# Altium integrated library NSC Switcher.IntLib: 2027 symbols (part 38 of 54)
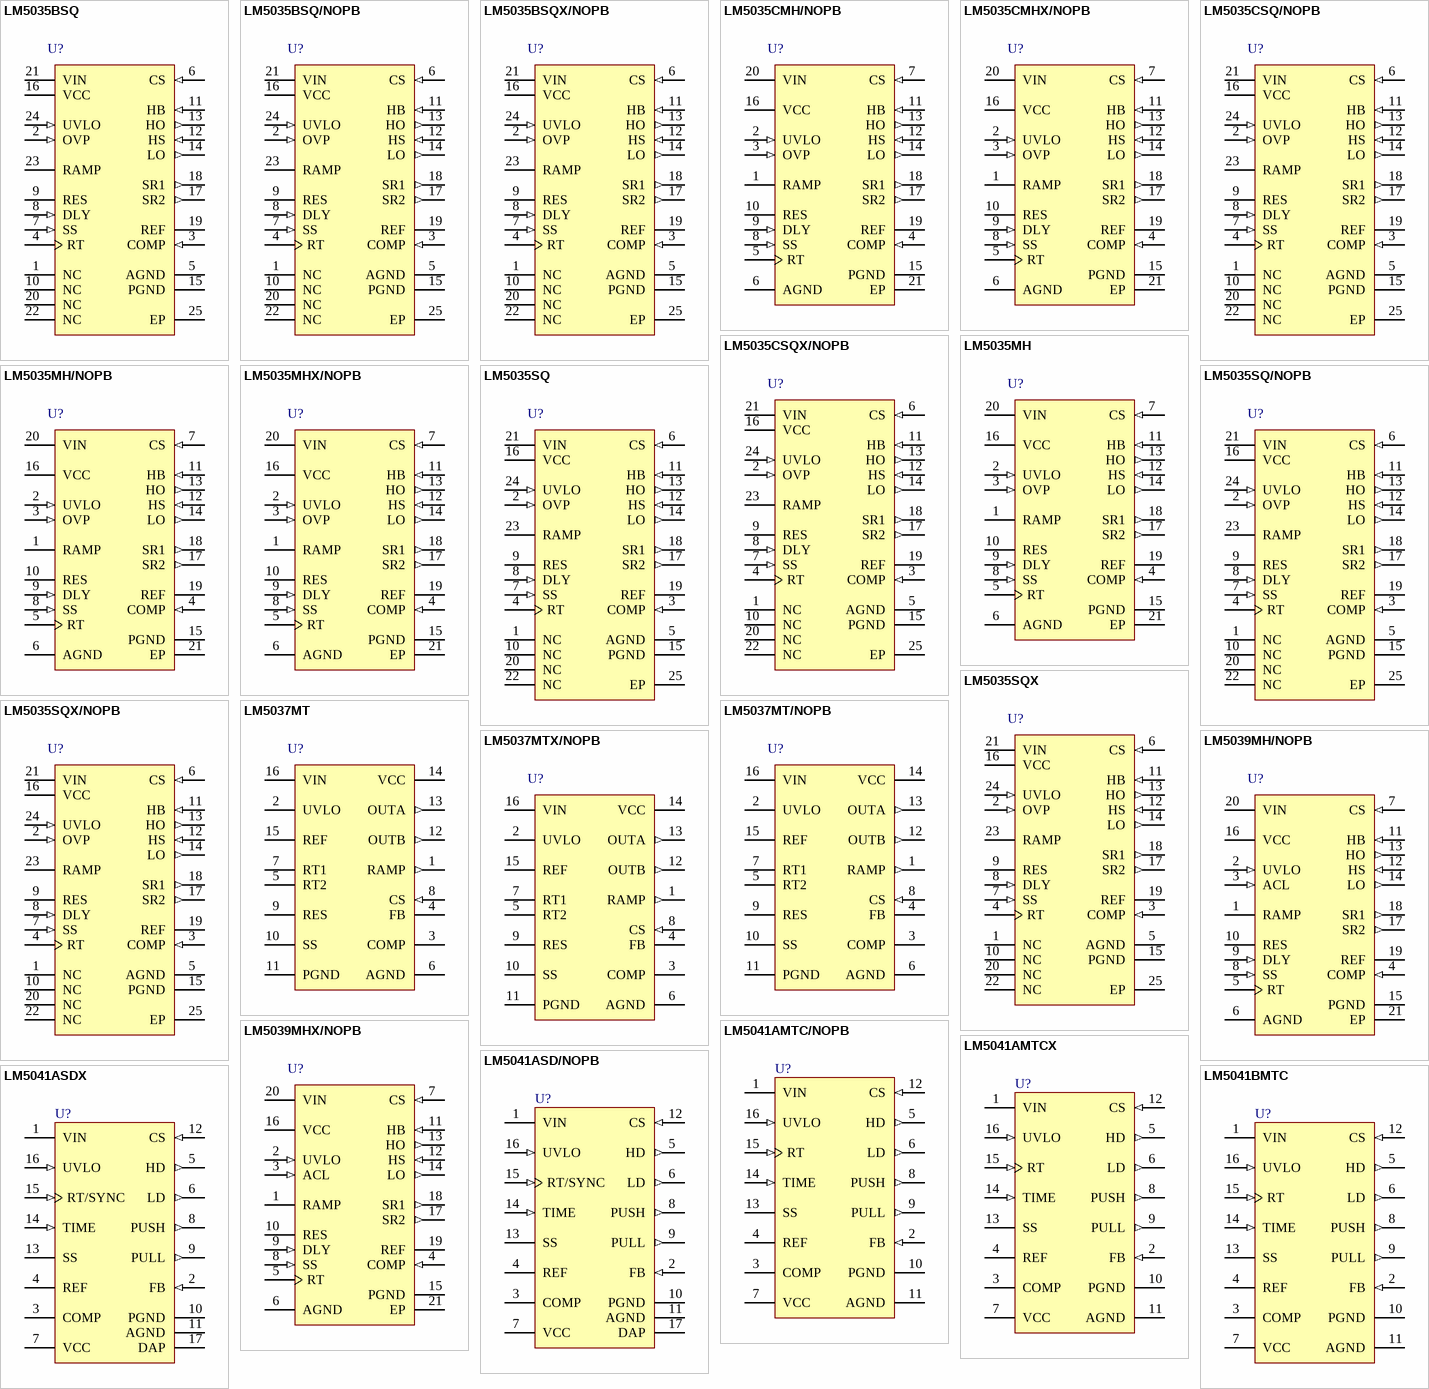
[diagram p100: symbols LM5035BSQ to LM5041BMTC]

## LM5035SQ
designator U?
PWM Controller with Integrated Half-Bridge and SyncFET Drivers, 24-pin LLP; PartNumber: LM5035SQ; Manufacturer: National Semiconductor; PackageTopMarking: NS*UZXYTT*L5035SQ; PowerWise: Y; CompType: Switcher; Published: 4-Dec-2008; DatasheetVersion: Dec-2008; PackageVersion: revA, Oct-2003; PackageReference: SQA24B; Publisher: Altium Limited; PackageDescription: LLP, Plastic, Quad, 5 x 4 x 0.8mm Body, 24 Lead, 0.5mm Pitch, No Pullback; RoHS: N; PinCount: 24; Code_JEDEC: MO-220-WGHD-1; ComponentLink1Description: LM5035 Datasheet; ComponentLink1URL: http://www.national.com/ds/LM/LM5035.pdf; ComponentLink2Description: LM5035 Web Page; ComponentLink2URL: http://www.national.com/pf/LM/LM5035.html; ComponentLink3Description: SQA24B Package Page; ComponentLink3URL: http://www.national.com/packaging/folders/sqa24b.html
footprint SQA24B (QFN, 24-Leads, Body 5x4mm, Pitch 0.5mm, NSC Recommended)
pins: 1 NC, 2 OVP (in), 3 COMP (in), 4 RT (power), 5 AGND (power), 6 CS (in), 7 SS (in), 8 DLY (in), 9 RES, 10 NC, 11 HB (in), 12 HS (in), 13 HO (out), 14 LO (out), 15 PGND (power), 16 VCC (power), 17 SR2 (out), 18 SR1 (out), 19 REF (power), 20 NC, 21 VIN (power), 22 NC, 23 RAMP, 24 UVLO (in), 25 EP (power)

## LM5035SQ/NOPB
designator U?
PWM Controller with Integrated Half-Bridge and SyncFET Drivers, 24-pin LLP, Pb-Free; PartNumber: LM5035SQ/NOPB; Manufacturer: National Semiconductor; PackageTopMarking: NS*UZXYTT*L5035SQ; PowerWise: Y; CompType: Switcher; Published: 1-Mar-2010; DatasheetVersion: Dec-2008; PackageVersion: revA, Oct-2003; PackageReference: SQA24B; Publisher: Altium Limited; PackageDescription: LLP, Plastic, Quad, 5 x 4 x 0.8mm Body, 24 Lead, 0.5mm Pitch, No Pullback; Supplier 1: Digi-Key; Supplier Part Number 1: LM5035SQTR-ND; Supplier 2: Digi-Key; Supplier Part Number 2: LM5035SQCT-ND; Supplier 3: Digi-Key; Supplier Part Number 3: LM5035SQDKR-ND; RoHS: Y; PinCount: 24; Code_JEDEC: MO-220-WGHD-1; ComponentLink1Description: LM5035 Datasheet; ComponentLink1URL: http://www.national.com/ds/LM/LM5035.pdf; ComponentLink2Description: LM5035 Web Page; ComponentLink2URL: http://www.national.com/pf/LM/LM5035.html; ComponentLink3Description: SQA24B Package Page; ComponentLink3URL: http://www.national.com/packaging/folders/sqa24b.html
footprint SQA24B (QFN, 24-Leads, Body 5x4mm, Pitch 0.5mm, NSC Recommended)
pins: 1 NC, 2 OVP (in), 3 COMP (in), 4 RT (power), 5 AGND (power), 6 CS (in), 7 SS (in), 8 DLY (in), 9 RES, 10 NC, 11 HB (in), 12 HS (in), 13 HO (out), 14 LO (out), 15 PGND (power), 16 VCC (power), 17 SR2 (out), 18 SR1 (out), 19 REF (power), 20 NC, 21 VIN (power), 22 NC, 23 RAMP, 24 UVLO (in), 25 EP (power)

## LM5035SQX
designator U?
PWM Controller with Integrated Half-Bridge and SyncFET Drivers, 24-pin LLP; PartNumber: LM5035SQX; Manufacturer: National Semiconductor; PackageTopMarking: NS*UZXYTT*L5035SQ; PowerWise: Y; CompType: Switcher; Published: 1-Mar-2010; DatasheetVersion: Dec-2008; PackageVersion: revA, Oct-2003; PackageReference: SQA24B; Publisher: Altium Limited; PackageDescription: LLP, Plastic, Quad, 5 x 4 x 0.8mm Body, 24 Lead, 0.5mm Pitch, No Pullback; RoHS: N; PinCount: 24; Code_JEDEC: MO-220-WGHD-1; ComponentLink1Description: LM5035 Datasheet; ComponentLink1URL: http://www.national.com/ds/LM/LM5035.pdf; ComponentLink2Description: LM5035 Web Page; ComponentLink2URL: http://www.national.com/pf/LM/LM5035.html; ComponentLink3Description: SQA24B Package Page; ComponentLink3URL: http://www.national.com/packaging/folders/sqa24b.html
footprint SQA24B (QFN, 24-Leads, Body 5x4mm, Pitch 0.5mm, NSC Recommended)
pins: 1 NC, 2 OVP (in), 3 COMP (in), 4 RT (power), 5 AGND (power), 6 CS (in), 7 SS (in), 8 DLY (in), 9 RES, 10 NC, 11 HB (in), 12 HS (in), 13 HO (out), 14 LO (out), 15 PGND (power), 16 VCC (power), 17 SR2 (out), 18 SR1 (out), 19 REF (power), 20 NC, 21 VIN (power), 22 NC, 23 RAMP, 24 UVLO (in), 25 EP (power)

## LM5035SQX/NOPB
designator U?
PWM Controller with Integrated Half-Bridge and SyncFET Drivers, 24-pin LLP, Pb-Free; PartNumber: LM5035SQX/NOPB; Manufacturer: National Semiconductor; PackageTopMarking: NS*UZXYTT*L5035SQ; PowerWise: Y; CompType: Switcher; Published: 1-Mar-2010; DatasheetVersion: Dec-2008; PackageVersion: revA, Oct-2003; PackageReference: SQA24B; Publisher: Altium Limited; PackageDescription: LLP, Plastic, Quad, 5 x 4 x 0.8mm Body, 24 Lead, 0.5mm Pitch, No Pullback; Supplier 1: Digi-Key; Supplier Part Number 1: LM5035SQX-ND; RoHS: Y; PinCount: 24; Code_JEDEC: MO-220-WGHD-1; ComponentLink1Description: LM5035 Datasheet; ComponentLink1URL: http://www.national.com/ds/LM/LM5035.pdf; ComponentLink2Description: LM5035 Web Page; ComponentLink2URL: http://www.national.com/pf/LM/LM5035.html; ComponentLink3Description: SQA24B Package Page; ComponentLink3URL: http://www.national.com/packaging/folders/sqa24b.html
footprint SQA24B (QFN, 24-Leads, Body 5x4mm, Pitch 0.5mm, NSC Recommended)
pins: 1 NC, 2 OVP (in), 3 COMP (in), 4 RT (power), 5 AGND (power), 6 CS (in), 7 SS (in), 8 DLY (in), 9 RES, 10 NC, 11 HB (in), 12 HS (in), 13 HO (out), 14 LO (out), 15 PGND (power), 16 VCC (power), 17 SR2 (out), 18 SR1 (out), 19 REF (power), 20 NC, 21 VIN (power), 22 NC, 23 RAMP, 24 UVLO (in), 25 EP (power)

## LM5037MT
designator U?
Dual-Mode PWM Controller with Alternating Outputs, 16-pin TSSOP; PartNumber: LM5037MT; Manufacturer: National Semiconductor; PackageTopMarking: NSUZXYTT*LM5037*MT; PowerWise: Y; CompType: Switcher; Published: 29-May-2009; DatasheetVersion: Jan-2010; PackageVersion: revD, Jun-2003; PackageReference: MTC16; Publisher: Altium Limited; PackageDescription: Molded TSSOP, Jedec, 5 x 4.4 x 0.9mm Body, 16 Lead, 0.65mm Pitch; RoHS: Y; PinCount: 16; Code_JEDEC: MO-153-AB; ComponentLink1Description: LM5037 Datasheet; ComponentLink1URL: http://www.national.com/ds/LM/LM5037.pdf; ComponentLink2Description: LM5037 Web Page; ComponentLink2URL: http://www.national.com/pf/LM/LM5037.html; ComponentLink3Description: MTC16 Package Page; ComponentLink3URL: http://www.national.com/packaging/folders/mtc16.html
footprint MTC16_N (TSOP, 16-Leads, Body 5x4.4mm, Pitch 0.65mm, IPC Medium Density)
footprint MTC16_L (TSOP, 16-Leads, Body 5x4.4mm, Pitch 0.65mm, IPC High Density)
footprint MTC16_M (TSOP, 16-Leads, Body 5x4.4mm, Pitch 0.65mm, IPC Low Density)
pins: 1 RAMP (out), 2 UVLO, 3 COMP, 4 FB, 5 RT2, 6 AGND (power), 7 RT1, 8 CS (in), 9 RES, 10 SS, 11 PGND (power), 12 OUTB (out), 13 OUTA (out), 14 VCC (power), 15 REF, 16 VIN

## LM5037MT/NOPB
designator U?
Dual-Mode PWM Controller With Alternating Outputs, 16-pin TSSOP, Pb-Free; PartNumber: LM5037MT/NOPB; Manufacturer: National Semiconductor; PackageTopMarking: NSUZXYTT*LM5037*MT; PowerWise: Y; CompType: Switcher; Published: 1-Mar-2010; DatasheetVersion: Jan-2010; PackageVersion: revD, Jun-2003; PackageReference: MTC16; Publisher: Altium Limited; PackageDescription: Molded TSSOP, Jedec, 5 x 4.4 x 0.9mm Body, 16 Lead, 0.65mm Pitch; Supplier 1: Digi-Key; Supplier Part Number 1: LM5037MT-ND; RoHS: Y; PinCount: 16; Code_JEDEC: MO-153-AB; ComponentLink1Description: LM5037 Datasheet; ComponentLink1URL: http://www.national.com/ds/LM/LM5037.pdf; ComponentLink2Description: LM5037 Web Page; ComponentLink2URL: http://www.national.com/pf/LM/LM5037.html; ComponentLink3Description: MTC16 Package Page; ComponentLink3URL: http://www.national.com/packaging/folders/mtc16.html
footprint MTC16_N (TSOP, 16-Leads, Body 5x4.4mm, Pitch 0.65mm, IPC Medium Density)
footprint MTC16_L (TSOP, 16-Leads, Body 5x4.4mm, Pitch 0.65mm, IPC High Density)
footprint MTC16_M (TSOP, 16-Leads, Body 5x4.4mm, Pitch 0.65mm, IPC Low Density)
pins: 1 RAMP (out), 2 UVLO, 3 COMP, 4 FB, 5 RT2, 6 AGND (power), 7 RT1, 8 CS (in), 9 RES, 10 SS, 11 PGND (power), 12 OUTB (out), 13 OUTA (out), 14 VCC (power), 15 REF, 16 VIN

## LM5037MTX/NOPB
designator U?
Dual-Mode PWM Controller With Alternating Outputs, 16-pin TSSOP, Pb-Free; PartNumber: LM5037MTX/NOPB; Manufacturer: National Semiconductor; PackageTopMarking: NSUZXYTT*LM5037*MT; PowerWise: Y; CompType: Switcher; Published: 1-Mar-2010; DatasheetVersion: Jan-2010; PackageVersion: revD, Jun-2003; PackageReference: MTC16; Publisher: Altium Limited; PackageDescription: Molded TSSOP, Jedec, 5 x 4.4 x 0.9mm Body, 16 Lead, 0.65mm Pitch; Supplier 1: Digi-Key; Supplier Part Number 1: LM5037MTX-ND; RoHS: Y; PinCount: 16; Code_JEDEC: MO-153-AB; ComponentLink1Description: LM5037 Datasheet; ComponentLink1URL: http://www.national.com/ds/LM/LM5037.pdf; ComponentLink2Description: LM5037 Web Page; ComponentLink2URL: http://www.national.com/pf/LM/LM5037.html; ComponentLink3Description: MTC16 Package Page; ComponentLink3URL: http://www.national.com/packaging/folders/mtc16.html
footprint MTC16_N (TSOP, 16-Leads, Body 5x4.4mm, Pitch 0.65mm, IPC Medium Density)
footprint MTC16_L (TSOP, 16-Leads, Body 5x4.4mm, Pitch 0.65mm, IPC High Density)
footprint MTC16_M (TSOP, 16-Leads, Body 5x4.4mm, Pitch 0.65mm, IPC Low Density)
pins: 1 RAMP (out), 2 UVLO, 3 COMP, 4 FB, 5 RT2, 6 AGND (power), 7 RT1, 8 CS (in), 9 RES, 10 SS, 11 PGND (power), 12 OUTB (out), 13 OUTA (out), 14 VCC (power), 15 REF, 16 VIN

## LM5039MH/NOPB
designator U?
Half-Bridge PWM Controller with Advanced Current Limit, 20-pin TSSOP-EP, Pb-Free; PartNumber: LM5039MH/NOPB; Manufacturer: National Semiconductor; PackageTopMarking: NSUZXYTT*LM5039*MH; PowerWise: Y; CompType: Switcher; Published: 1-Mar-2010; DatasheetVersion: Feb-2010; PackageVersion: revC, Jul-2006; PackageReference: MXA20A; Publisher: Altium Limited; PackageDescription: Molded TSSOP, Jedec, 6.5 x 4.4 x 0.9mm Body, 20 Lead, 0.65mm Pitch, Exposed Pad; Supplier 1: Digi-Key; Supplier Part Number 1: LM5039MH-ND; RoHS: Y; PinCount: 20; Code_JEDEC: MO-153-ACT; ComponentLink1Description: LM5039 Datasheet; ComponentLink1URL: http://www.national.com/ds/LM/LM5039.pdf; ComponentLink2Description: LM5039 Web Page; ComponentLink2URL: http://www.national.com/pf/LM/LM5039.html; ComponentLink3Description: MXA20A Package Page; ComponentLink3URL: http://www.national.com/packaging/folders/mxa20a.html
footprint MXA20A_N (TSOP, 20-Leads, Body 6.5x4.4mm, Pitch 0.65mm, Exposed Pad, IPC Medium Density)
footprint MXA20A_L (TSOP, 20-Leads, Body 6.5x4.4mm, Pitch 0.65mm, Exposed Pad, IPC High Density)
footprint MXA20A_M (TSOP, 20-Leads, Body 6.5x4.4mm, Pitch 0.65mm, Exposed Pad, IPC Low Density)
pins: 1 RAMP, 2 UVLO (in), 3 ACL (in), 4 COMP (in), 5 RT (power), 6 AGND (power), 7 CS (in), 8 SS (in), 9 DLY (in), 10 RES, 11 HB (in), 12 HS (in), 13 HO (out), 14 LO (out), 15 PGND (power), 16 VCC (power), 17 SR2 (out), 18 SR1 (out), 19 REF (power), 20 VIN (power), 21 EP (power)

## LM5039MHX/NOPB
designator U?
Half-Bridge PWM Controller with Advanced Current Limit, 20-pin TSSOP-EP, Pb-Free; PartNumber: LM5039MHX/NOPB; Manufacturer: National Semiconductor; PackageTopMarking: NSUZXYTT*LM5039*MH; PowerWise: Y; CompType: Switcher; Published: 1-Mar-2010; DatasheetVersion: Feb-2010; PackageVersion: revC, Jul-2006; PackageReference: MXA20A; Publisher: Altium Limited; PackageDescription: Molded TSSOP, Jedec, 6.5 x 4.4 x 0.9mm Body, 20 Lead, 0.65mm Pitch, Exposed Pad; Supplier 1: Digi-Key; Supplier Part Number 1: LM5039MHX/NOPB-ND; RoHS: Y; PinCount: 20; Code_JEDEC: MO-153-ACT; ComponentLink1Description: LM5039 Datasheet; ComponentLink1URL: http://www.national.com/ds/LM/LM5039.pdf; ComponentLink2Description: LM5039 Web Page; ComponentLink2URL: http://www.national.com/pf/LM/LM5039.html; ComponentLink3Description: MXA20A Package Page; ComponentLink3URL: http://www.national.com/packaging/folders/mxa20a.html
footprint MXA20A_N (TSOP, 20-Leads, Body 6.5x4.4mm, Pitch 0.65mm, Exposed Pad, IPC Medium Density)
footprint MXA20A_L (TSOP, 20-Leads, Body 6.5x4.4mm, Pitch 0.65mm, Exposed Pad, IPC High Density)
footprint MXA20A_M (TSOP, 20-Leads, Body 6.5x4.4mm, Pitch 0.65mm, Exposed Pad, IPC Low Density)
pins: 1 RAMP, 2 UVLO (in), 3 ACL (in), 4 COMP (in), 5 RT (power), 6 AGND (power), 7 CS (in), 8 SS (in), 9 DLY (in), 10 RES, 11 HB (in), 12 HS (in), 13 HO (out), 14 LO (out), 15 PGND (power), 16 VCC (power), 17 SR2 (out), 18 SR1 (out), 19 REF (power), 20 VIN (power), 21 EP (power)

## LM5041AMTC/NOPB
designator U?
Cascaded PWM Controller, 16-pin TSSOP, Pb-Free; PartNumber: LM5041AMTC/NOPB; Manufacturer: National Semiconductor; PackageTopMarking: NSUZXYTT*LM5041A*MTC; PowerWise: Y; CompType: Switcher; Published: 1-Mar-2010; DatasheetVersion: May-2009; PackageVersion: revD, Jun-2003; PackageReference: MTC16; Publisher: Altium Limited; PackageDescription: Molded TSSOP, Jedec, 5 x 4.4 x 0.9mm Body, 16 Lead, 0.65mm Pitch; Supplier 1: Digi-Key; Supplier Part Number 1: LM5041AMTC-ND; RoHS: Y; PinCount: 16; Code_JEDEC: MO-153-AB; ComponentLink1Description: LM5041A Datasheet; ComponentLink1URL: http://www.national.com/ds/LM/LM5041A.pdf; ComponentLink2Description: LM5041A Web Page; ComponentLink2URL: http://www.national.com/pf/LM/LM5041A.html; ComponentLink3Description: MTC16 Package Page; ComponentLink3URL: http://www.national.com/packaging/folders/mtc16.html
footprint MTC16_N (TSOP, 16-Leads, Body 5x4.4mm, Pitch 0.65mm, IPC Medium Density)
footprint MTC16_L (TSOP, 16-Leads, Body 5x4.4mm, Pitch 0.65mm, IPC High Density)
footprint MTC16_M (TSOP, 16-Leads, Body 5x4.4mm, Pitch 0.65mm, IPC Low Density)
pins: 1 VIN (power), 2 FB (in), 3 COMP, 4 REF (power), 5 HD (out), 6 LD (out), 7 VCC (power), 8 PUSH (out), 9 PULL (out), 10 PGND (power), 11 AGND (power), 12 CS (in), 13 SS, 14 TIME (in), 15 RT (in), 16 UVLO (in)

## LM5041AMTCX
designator U?
Cascaded PWM Controller, 16-pin TSSOP; PartNumber: LM5041AMTCX; Manufacturer: National Semiconductor; PackageTopMarking: NSUZXYTT*LM5041A*MTC; PowerWise: Y; CompType: Switcher; Published: 1-Mar-2010; DatasheetVersion: May-2009; PackageVersion: revD, Jun-2003; PackageReference: MTC16; Publisher: Altium Limited; PackageDescription: Molded TSSOP, Jedec, 5 x 4.4 x 0.9mm Body, 16 Lead, 0.65mm Pitch; RoHS: N; PinCount: 16; Code_JEDEC: MO-153-AB; ComponentLink1Description: LM5041A Datasheet; ComponentLink1URL: http://www.national.com/ds/LM/LM5041A.pdf; ComponentLink2Description: LM5041A Web Page; ComponentLink2URL: http://www.national.com/pf/LM/LM5041A.html; ComponentLink3Description: MTC16 Package Page; ComponentLink3URL: http://www.national.com/packaging/folders/mtc16.html
footprint MTC16_N (TSOP, 16-Leads, Body 5x4.4mm, Pitch 0.65mm, IPC Medium Density)
footprint MTC16_L (TSOP, 16-Leads, Body 5x4.4mm, Pitch 0.65mm, IPC High Density)
footprint MTC16_M (TSOP, 16-Leads, Body 5x4.4mm, Pitch 0.65mm, IPC Low Density)
pins: 1 VIN (power), 2 FB (in), 3 COMP, 4 REF (power), 5 HD (out), 6 LD (out), 7 VCC (power), 8 PUSH (out), 9 PULL (out), 10 PGND (power), 11 AGND (power), 12 CS (in), 13 SS, 14 TIME (in), 15 RT (in), 16 UVLO (in)

## LM5041ASD/NOPB
designator U?
Cascaded PWM Controller, 16-pin LLP, Pb-Free; PartNumber: LM5041ASD/NOPB; Manufacturer: National Semiconductor; PackageTopMarking: NS*UZXYTT*5041ASD; PowerWise: Y; CompType: Switcher; Published: 1-Mar-2010; DatasheetVersion: May-2005; PackageVersion: revA, May-2003; PackageReference: SDA16A; Publisher: Altium Limited; PackageDescription: LLP, Plastic, Dual, 5 x 5 x 0.8mm Body,16 Lead, 0.5mm Pitch, No Pullback; Supplier 1: Digi-Key; Supplier Part Number 1: LM5041ASDTR-ND; Supplier 2: Digi-Key; Supplier Part Number 2: LM5041ASDCT-ND; Supplier 3: Digi-Key; Supplier Part Number 3: LM5041ASDDKR-ND; RoHS: Y; PinCount: 16; ComponentLink1Description: LM5041A Datasheet; ComponentLink1URL: http://www.national.com/ds/LM/LM5041A.pdf; ComponentLink2Description: LM5041A Web Page; ComponentLink2URL: http://www.national.com/pf/LM/LM5041A.html; ComponentLink3Description: SDA16A Package Page; ComponentLink3URL: http://www.national.com/packaging/folders/sda16a.html
footprint SDA16A (SON, 16-Leads, Body 5x5mm, Pitch 0.5mm, NSC Recommended)
pins: 1 VIN (power), 2 FB (in), 3 COMP, 4 REF (power), 5 HD (out), 6 LD (out), 7 VCC (power), 8 PUSH (out), 9 PULL (out), 10 PGND (power), 11 AGND (power), 12 CS (in), 13 SS, 14 TIME (in), 15 RT/SYNC (in), 16 UVLO (in), 17 DAP (power)

## LM5041ASDX
designator U?
Cascaded PWM Controller, 16-pin LLP; PartNumber: LM5041ASDX; Manufacturer: National Semiconductor; PackageTopMarking: NS*UZXYTT*5041ASD; PowerWise: Y; CompType: Switcher; Published: 1-Mar-2010; DatasheetVersion: May-2005; PackageVersion: revA, May-2003; PackageReference: SDA16A; Publisher: Altium Limited; PackageDescription: LLP, Plastic, Dual, 5 x 5 x 0.8mm Body,16 Lead, 0.5mm Pitch, No Pullback; RoHS: N; PinCount: 16; ComponentLink1Description: LM5041A Datasheet; ComponentLink1URL: http://www.national.com/ds/LM/LM5041A.pdf; ComponentLink2Description: LM5041A Web Page; ComponentLink2URL: http://www.national.com/pf/LM/LM5041A.html; ComponentLink3Description: SDA16A Package Page; ComponentLink3URL: http://www.national.com/packaging/folders/sda16a.html
footprint SDA16A (SON, 16-Leads, Body 5x5mm, Pitch 0.5mm, NSC Recommended)
pins: 1 VIN (power), 2 FB (in), 3 COMP, 4 REF (power), 5 HD (out), 6 LD (out), 7 VCC (power), 8 PUSH (out), 9 PULL (out), 10 PGND (power), 11 AGND (power), 12 CS (in), 13 SS, 14 TIME (in), 15 RT/SYNC (in), 16 UVLO (in), 17 DAP (power)

## LM5041BMTC
designator U?
Cascaded PWM Controller, 16-pin TSSOP; PartNumber: LM5041BMTC; Manufacturer: National Semiconductor; PackageTopMarking: NSUZXYTT*LM5041B*MTC; PowerWise: N; CompType: Switcher; Published: 29-May-2009; DatasheetVersion: May-2009; PackageVersion: revD, Jun-2003; PackageReference: MTC16; Publisher: Altium Limited; PackageDescription: Molded TSSOP, Jedec, 5 x 4.4 x 0.9mm Body, 16 Lead, 0.65mm Pitch; RoHS: Y; PinCount: 16; Code_JEDEC: MO-153-AB; ComponentLink1Description: LM5041B Datasheet; ComponentLink1URL: http://www.national.com/ds/LM/LM5041B.pdf; ComponentLink2Description: LM5041B Web Page; ComponentLink2URL: http://www.national.com/pf/LM/LM5041B.html; ComponentLink3Description: MTC16 Package Page; ComponentLink3URL: http://www.national.com/packaging/folders/mtc16.html
footprint MTC16_N (TSOP, 16-Leads, Body 5x4.4mm, Pitch 0.65mm, IPC Medium Density)
footprint MTC16_L (TSOP, 16-Leads, Body 5x4.4mm, Pitch 0.65mm, IPC High Density)
footprint MTC16_M (TSOP, 16-Leads, Body 5x4.4mm, Pitch 0.65mm, IPC Low Density)
pins: 1 VIN (power), 2 FB (in), 3 COMP, 4 REF (power), 5 HD (out), 6 LD (out), 7 VCC (power), 8 PUSH (out), 9 PULL (out), 10 PGND (power), 11 AGND (power), 12 CS (in), 13 SS, 14 TIME (in), 15 RT (in), 16 UVLO (in)

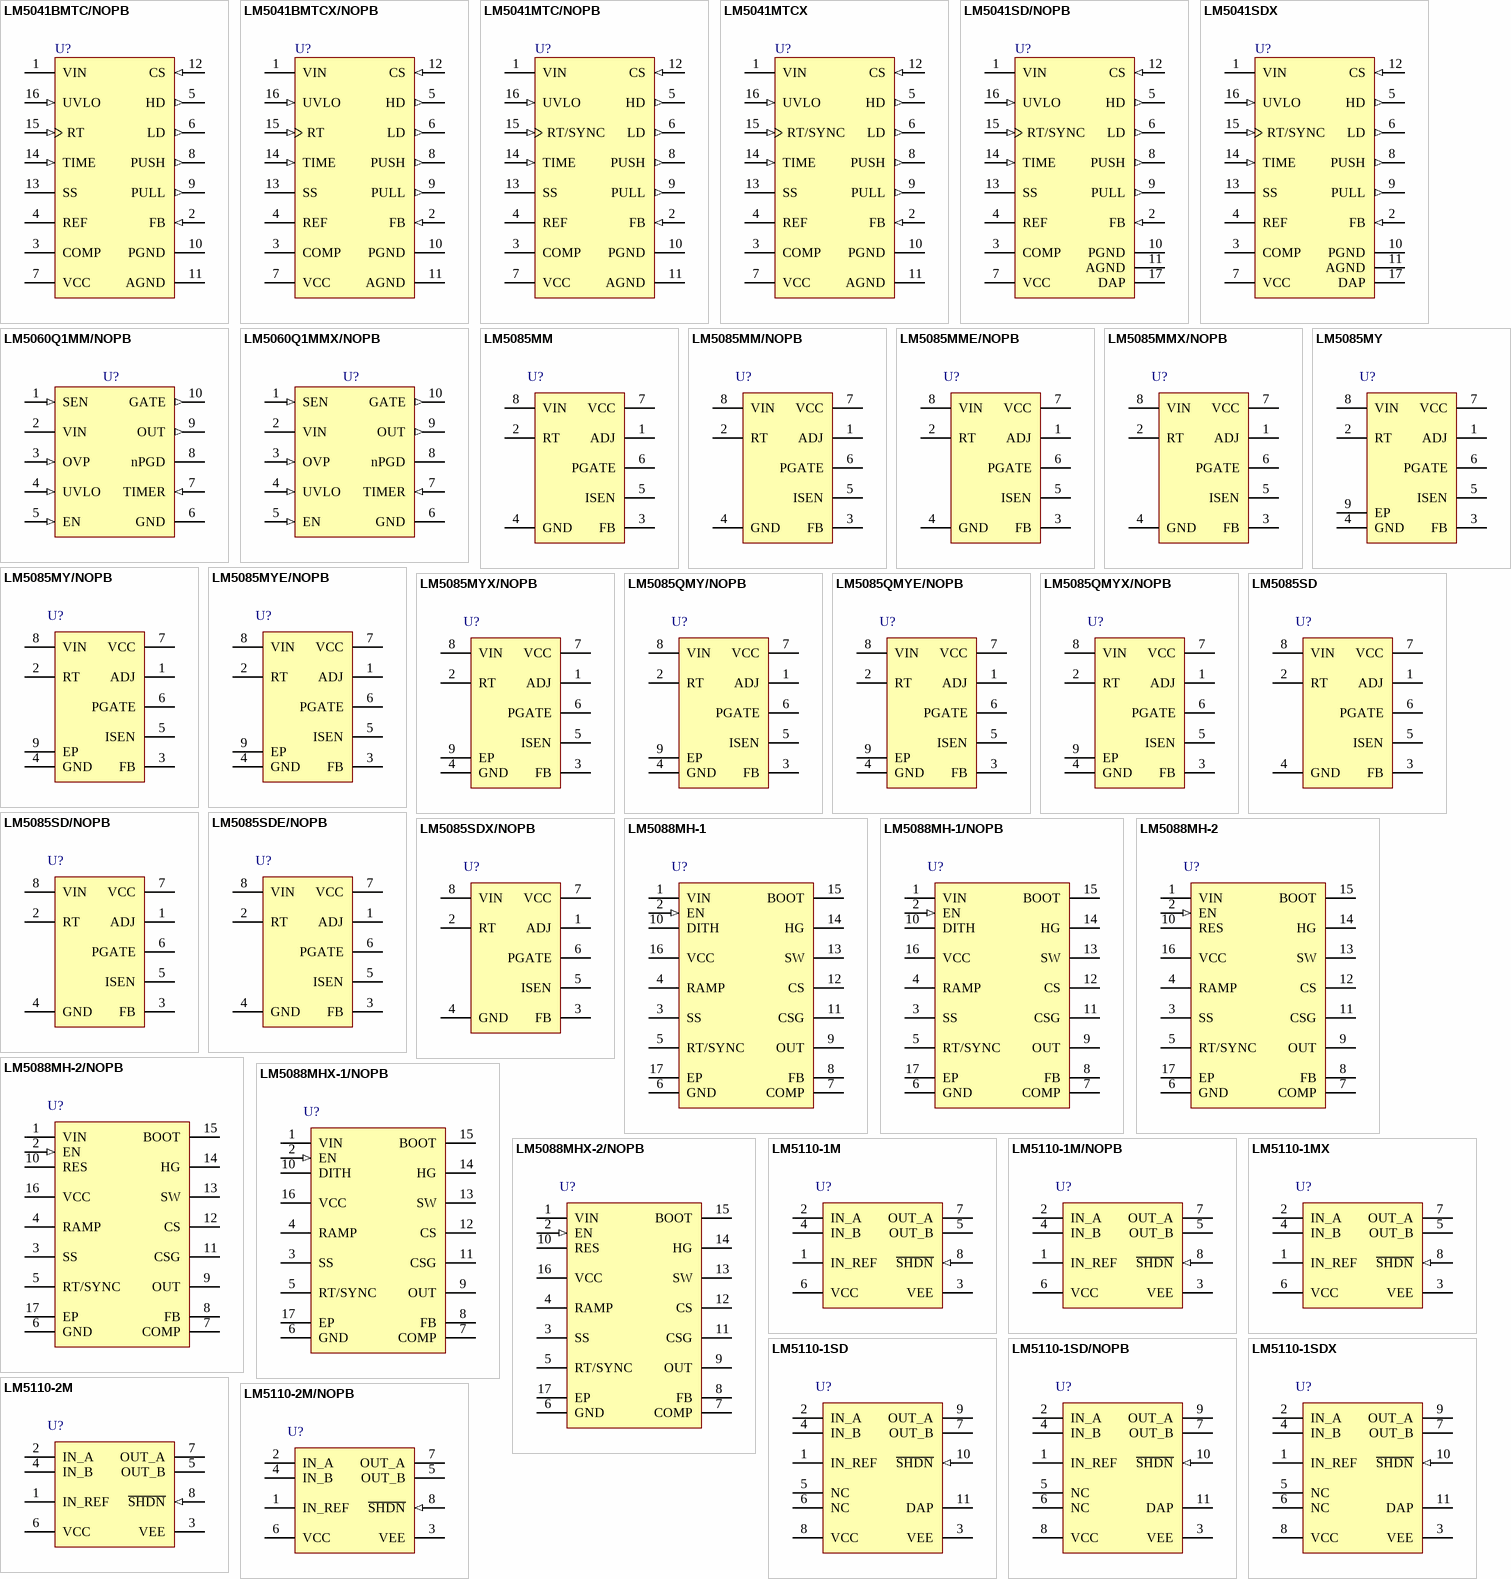
[diagram p42: symbols LM5041BMTC/NOPB to LM5110-2M/NOPB]

## LM5041BMTC/NOPB
designator U?
Cascaded PWM Controller, 16-pin TSSOP, Pb-Free; PartNumber: LM5041BMTC/NOPB; Manufacturer: National Semiconductor; PackageTopMarking: NSUZXYTT*LM5041B*MTC; PowerWise: Y; CompType: Switcher; Published: 1-Mar-2010; DatasheetVersion: May-2009; PackageVersion: revD, Jun-2003; PackageReference: MTC16; Publisher: Altium Limited; PackageDescription: Molded TSSOP, Jedec, 5 x 4.4 x 0.9mm Body, 16 Lead, 0.65mm Pitch; Supplier 1: Digi-Key; Supplier Part Number 1: LM5041BMTC-ND; RoHS: Y; PinCount: 16; Code_JEDEC: MO-153-AB; ComponentLink1Description: LM5041B Datasheet; ComponentLink1URL: http://www.national.com/ds/LM/LM5041B.pdf; ComponentLink2Description: LM5041B Web Page; ComponentLink2URL: http://www.national.com/pf/LM/LM5041B.html; ComponentLink3Description: MTC16 Package Page; ComponentLink3URL: http://www.national.com/packaging/folders/mtc16.html
footprint MTC16_N (TSOP, 16-Leads, Body 5x4.4mm, Pitch 0.65mm, IPC Medium Density)
footprint MTC16_L (TSOP, 16-Leads, Body 5x4.4mm, Pitch 0.65mm, IPC High Density)
footprint MTC16_M (TSOP, 16-Leads, Body 5x4.4mm, Pitch 0.65mm, IPC Low Density)
pins: 1 VIN (power), 2 FB (in), 3 COMP, 4 REF (power), 5 HD (out), 6 LD (out), 7 VCC (power), 8 PUSH (out), 9 PULL (out), 10 PGND (power), 11 AGND (power), 12 CS (in), 13 SS, 14 TIME (in), 15 RT (in), 16 UVLO (in)

## LM5041BMTCX/NOPB
designator U?
Cascaded PWM Controller, 16-pin TSSOP, Pb-Free; PartNumber: LM5041BMTCX/NOPB; Manufacturer: National Semiconductor; PackageTopMarking: NSUZXYTT*LM5041B*MTC; PowerWise: Y; CompType: Switcher; Published: 1-Mar-2010; DatasheetVersion: May-2009; PackageVersion: revD, Jun-2003; PackageReference: MTC16; Publisher: Altium Limited; PackageDescription: Molded TSSOP, Jedec, 5 x 4.4 x 0.9mm Body, 16 Lead, 0.65mm Pitch; Supplier 1: Digi-Key; Supplier Part Number 1: LM5041BMTCX-ND; RoHS: Y; PinCount: 16; Code_JEDEC: MO-153-AB; ComponentLink1Description: LM5041B Datasheet; ComponentLink1URL: http://www.national.com/ds/LM/LM5041B.pdf; ComponentLink2Description: LM5041B Web Page; ComponentLink2URL: http://www.national.com/pf/LM/LM5041B.html; ComponentLink3Description: MTC16 Package Page; ComponentLink3URL: http://www.national.com/packaging/folders/mtc16.html
footprint MTC16_N (TSOP, 16-Leads, Body 5x4.4mm, Pitch 0.65mm, IPC Medium Density)
footprint MTC16_L (TSOP, 16-Leads, Body 5x4.4mm, Pitch 0.65mm, IPC High Density)
footprint MTC16_M (TSOP, 16-Leads, Body 5x4.4mm, Pitch 0.65mm, IPC Low Density)
pins: 1 VIN (power), 2 FB (in), 3 COMP, 4 REF (power), 5 HD (out), 6 LD (out), 7 VCC (power), 8 PUSH (out), 9 PULL (out), 10 PGND (power), 11 AGND (power), 12 CS (in), 13 SS, 14 TIME (in), 15 RT (in), 16 UVLO (in)

## LM5041MTC/NOPB
designator U?
Cascaded PWM Controller, 16-pin TSSOP, Pb-Free; PartNumber: LM5041MTC/NOPB; Manufacturer: National Semiconductor; PackageTopMarking: NSZXYTT*LM5041*MTC; PowerWise: Y; CompType: Switcher; Published: 1-Mar-2010; DatasheetVersion: Apr-2004; PackageVersion: revD, Jun-2003; PackageReference: MTC16; Publisher: Altium Limited; PackageDescription: Molded TSSOP, Jedec, 5 x 4.4 x 0.9mm Body, 16 Lead, 0.65mm Pitch; Supplier 1: Digi-Key; Supplier Part Number 1: LM5041MTC-ND; RoHS: Y; PinCount: 16; Code_JEDEC: MO-153-AB; ComponentLink1Description: LM5041 Datasheet; ComponentLink1URL: http://www.national.com/ds/LM/LM5041.pdf; ComponentLink2Description: LM5041 Web Page; ComponentLink2URL: http://www.national.com/pf/LM/LM5041.html; ComponentLink3Description: MTC16 Package Page; ComponentLink3URL: http://www.national.com/packaging/folders/mtc16.html
footprint MTC16_N (TSOP, 16-Leads, Body 5x4.4mm, Pitch 0.65mm, IPC Medium Density)
footprint MTC16_L (TSOP, 16-Leads, Body 5x4.4mm, Pitch 0.65mm, IPC High Density)
footprint MTC16_M (TSOP, 16-Leads, Body 5x4.4mm, Pitch 0.65mm, IPC Low Density)
pins: 1 VIN (power), 2 FB (in), 3 COMP, 4 REF (power), 5 HD (out), 6 LD (out), 7 VCC (power), 8 PUSH (out), 9 PULL (out), 10 PGND (power), 11 AGND (power), 12 CS (in), 13 SS, 14 TIME (in), 15 RT/SYNC (in), 16 UVLO (in)

## LM5041MTCX
designator U?
Cascaded PWM Controller, 16-pin TSSOP; PartNumber: LM5041MTCX; Manufacturer: National Semiconductor; PackageTopMarking: NSZXYTT*LM5041*MTC; PowerWise: Y; CompType: Switcher; Published: 1-Mar-2010; DatasheetVersion: Apr-2004; PackageVersion: revD, Jun-2003; PackageReference: MTC16; Publisher: Altium Limited; PackageDescription: Molded TSSOP, Jedec, 5 x 4.4 x 0.9mm Body, 16 Lead, 0.65mm Pitch; RoHS: N; PinCount: 16; Code_JEDEC: MO-153-AB; ComponentLink1Description: LM5041 Datasheet; ComponentLink1URL: http://www.national.com/ds/LM/LM5041.pdf; ComponentLink2Description: LM5041 Web Page; ComponentLink2URL: http://www.national.com/pf/LM/LM5041.html; ComponentLink3Description: MTC16 Package Page; ComponentLink3URL: http://www.national.com/packaging/folders/mtc16.html
footprint MTC16_N (TSOP, 16-Leads, Body 5x4.4mm, Pitch 0.65mm, IPC Medium Density)
footprint MTC16_L (TSOP, 16-Leads, Body 5x4.4mm, Pitch 0.65mm, IPC High Density)
footprint MTC16_M (TSOP, 16-Leads, Body 5x4.4mm, Pitch 0.65mm, IPC Low Density)
pins: 1 VIN (power), 2 FB (in), 3 COMP, 4 REF (power), 5 HD (out), 6 LD (out), 7 VCC (power), 8 PUSH (out), 9 PULL (out), 10 PGND (power), 11 AGND (power), 12 CS (in), 13 SS, 14 TIME (in), 15 RT/SYNC (in), 16 UVLO (in)

## LM5041SD/NOPB
designator U?
Cascaded PWM Controller, 16-pin LLP, Pb-Free; PartNumber: LM5041SD/NOPB; Manufacturer: National Semiconductor; PackageTopMarking: NS*UZXYTT*5041SD; PowerWise: Y; CompType: Switcher; Published: 1-Mar-2010; DatasheetVersion: Apr-2004; PackageVersion: revA, May-2003; PackageReference: SDA16A; Publisher: Altium Limited; PackageDescription: LLP, Plastic, Dual, 5 x 5 x 0.8mm Body,16 Lead, 0.5mm Pitch, No Pullback; Supplier 1: Digi-Key; Supplier Part Number 1: LM5041SDTR-ND; Supplier 2: Digi-Key; Supplier Part Number 2: LM5041SDCT-ND; Supplier 3: Digi-Key; Supplier Part Number 3: LM5041SDDKR-ND; RoHS: Y; PinCount: 16; ComponentLink1Description: LM5041 Datasheet; ComponentLink1URL: http://www.national.com/ds/LM/LM5041.pdf; ComponentLink2Description: LM5041 Web Page; ComponentLink2URL: http://www.national.com/pf/LM/LM5041.html; ComponentLink3Description: SDA16A Package Page; ComponentLink3URL: http://www.national.com/packaging/folders/sda16a.html
footprint SDA16A (SON, 16-Leads, Body 5x5mm, Pitch 0.5mm, NSC Recommended)
pins: 1 VIN (power), 2 FB (in), 3 COMP, 4 REF (power), 5 HD (out), 6 LD (out), 7 VCC (power), 8 PUSH (out), 9 PULL (out), 10 PGND (power), 11 AGND (power), 12 CS (in), 13 SS, 14 TIME (in), 15 RT/SYNC (in), 16 UVLO (in), 17 DAP (power)

## LM5041SDX
designator U?
Cascaded PWM Controller, 16-pin LLP; PartNumber: LM5041SDX; Manufacturer: National Semiconductor; PackageTopMarking: NS*UZXYTT*5041SD; PowerWise: Y; CompType: Switcher; Published: 1-Mar-2010; DatasheetVersion: Apr-2004; PackageVersion: revA, May-2003; PackageReference: SDA16A; Publisher: Altium Limited; PackageDescription: LLP, Plastic, Dual, 5 x 5 x 0.8mm Body,16 Lead, 0.5mm Pitch, No Pullback; RoHS: N; PinCount: 16; ComponentLink1Description: LM5041 Datasheet; ComponentLink1URL: http://www.national.com/ds/LM/LM5041.pdf; ComponentLink2Description: LM5041 Web Page; ComponentLink2URL: http://www.national.com/pf/LM/LM5041.html; ComponentLink3Description: SDA16A Package Page; ComponentLink3URL: http://www.national.com/packaging/folders/sda16a.html
footprint SDA16A (SON, 16-Leads, Body 5x5mm, Pitch 0.5mm, NSC Recommended)
pins: 1 VIN (power), 2 FB (in), 3 COMP, 4 REF (power), 5 HD (out), 6 LD (out), 7 VCC (power), 8 PUSH (out), 9 PULL (out), 10 PGND (power), 11 AGND (power), 12 CS (in), 13 SS, 14 TIME (in), 15 RT/SYNC (in), 16 UVLO (in), 17 DAP (power)

## LM5060Q1MM/NOPB
designator U?
High-Side Protection Controller with Low Quiescent Current, 10-pin MSOP, Pb-Free; PartNumber: LM5060Q1MM/NOPB; Manufacturer: National Semiconductor; PackageTopMarking: ZXTT*SZAB; PowerWise: N; CompType: Switcher; Published: 1-Mar-2010; DatasheetVersion: Nov-2009; PackageVersion: revB, Jul-2003; PackageReference: MUB10A; Publisher: Altium Limited; PackageDescription: Mini-SO, Molded, .118 x .118 x .034in Body, 10 Lead, .0197in Pitch; Supplier 1: Digi-Key; Supplier Part Number 1: LM5060Q1MMTR-ND; Supplier 2: Digi-Key; Supplier Part Number 2: LM5060Q1MMCT-ND; Supplier 3: Digi-Key; Supplier Part Number 3: LM5060Q1MMDKR-ND; Supplier 4: Farnell; Supplier Part Number 4: 1791110; RoHS: Y; PinCount: 10; Code_JEDEC: MO-187-BA; ComponentLink1Description: LM5060 Datasheet; ComponentLink1URL: http://www.national.com/ds/LM/LM5060.pdf; ComponentLink2Description: LM5060 Web Page; ComponentLink2URL: http://www.national.com/pf/LM/LM5060.html; ComponentLink3Description: MUB10A Package Page; ComponentLink3URL: http://www.national.com/packaging/folders/mub10a.html
footprint MUB10A_N (TSSOP, 10-Leads, Body 3x3mm, Pitch 0.5mm, IPC Medium Density)
footprint MUB10A_L (TSSOP, 10-Leads, Body 3x3mm, Pitch 0.5mm, IPC High Density)
footprint MUB10A_M (TSSOP, 10-Leads, Body 3x3mm, Pitch 0.5mm, IPC Low Density)
pins: 1 SEN (in), 2 VIN (power), 3 OVP (in), 4 UVLO (in), 5 EN (in), 6 GND (power), 7 TIMER (in), 8 nPGD (oc), 9 OUT (out), 10 GATE (out)

## LM5060Q1MMX/NOPB
designator U?
High-Side Protection Controller with Low Quiescent Current, 10-pin MSOP, Pb-Free; PartNumber: LM5060Q1MMX/NOPB; Manufacturer: National Semiconductor; PackageTopMarking: ZXTT*SZAB; PowerWise: N; CompType: Switcher; Published: 1-Mar-2010; DatasheetVersion: Nov-2009; PackageVersion: revB, Jul-2003; PackageReference: MUB10A; Publisher: Altium Limited; PackageDescription: Mini-SO, Molded, .118 x .118 x .034in Body, 10 Lead, .0197in Pitch; Supplier 1: Digi-Key; Supplier Part Number 1: LM5060Q1MMX-ND; RoHS: Y; PinCount: 10; Code_JEDEC: MO-187-BA; ComponentLink1Description: LM5060 Datasheet; ComponentLink1URL: http://www.national.com/ds/LM/LM5060.pdf; ComponentLink2Description: LM5060 Web Page; ComponentLink2URL: http://www.national.com/pf/LM/LM5060.html; ComponentLink3Description: MUB10A Package Page; ComponentLink3URL: http://www.national.com/packaging/folders/mub10a.html
footprint MUB10A_N (TSSOP, 10-Leads, Body 3x3mm, Pitch 0.5mm, IPC Medium Density)
footprint MUB10A_L (TSSOP, 10-Leads, Body 3x3mm, Pitch 0.5mm, IPC High Density)
footprint MUB10A_M (TSSOP, 10-Leads, Body 3x3mm, Pitch 0.5mm, IPC Low Density)
pins: 1 SEN (in), 2 VIN (power), 3 OVP (in), 4 UVLO (in), 5 EN (in), 6 GND (power), 7 TIMER (in), 8 nPGD (oc), 9 OUT (out), 10 GATE (out)

## LM5085MM
designator U?
75V Constant On-Time PFET Buck Switching Controller, 8-pin MSOP; PartNumber: LM5085MM; Manufacturer: National Semiconductor; PackageTopMarking: ZXTT*SSTB; PowerWise: Y; CompType: Switcher; Published: 29-May-2009; DatasheetVersion: Dec-2009; PackageVersion: revF, Apr-2008; PackageReference: MUA08A; Publisher: Altium Limited; PackageDescription: MINI SOIC, .118 x .118 x .034in, 8 Lead, .0256in Pitch; RoHS: Y; PinCount: 8; Code_JEDEC: MO-187-AA; ComponentLink1Description: LM5085 Datasheet; ComponentLink1URL: http://www.national.com/ds/LM/LM5085.pdf; ComponentLink2Description: LM5085 Web Page; ComponentLink2URL: http://www.national.com/pf/LM/LM5085.html; ComponentLink3Description: MUA08A Package Page; ComponentLink3URL: http://www.national.com/packaging/folders/mua08a.html
footprint MUA08A_N (TSOP, 8-Leads, Body 3x3mm, Pitch 0.65mm, IPC Medium Density)
footprint MUA08A_L (TSOP, 8-Leads, Body 3x3mm, Pitch 0.65mm, IPC High Density)
footprint MUA08A_M (TSOP, 8-Leads, Body 3x3mm, Pitch 0.65mm, IPC Low Density)
pins: 1 ADJ, 2 RT, 3 FB, 4 GND (power), 5 ISEN, 6 PGATE, 7 VCC (power), 8 VIN

## LM5085MM/NOPB
designator U?
75V Constant On-Time PFET Buck Switching Controller, 8-pin MSOP, Pb-Free; PartNumber: LM5085MM/NOPB; Manufacturer: National Semiconductor; PackageTopMarking: ZXTT*SSTB; PowerWise: Y; CompType: Switcher; Published: 1-Mar-2010; DatasheetVersion: Dec-2009; PackageVersion: revF, Apr-2008; PackageReference: MUA08A; Publisher: Altium Limited; PackageDescription: MINI SOIC, .118 x .118 x .034in, 8 Lead, .0256in Pitch; Supplier 1: Digi-Key; Supplier Part Number 1: LM5085MM-ND; RoHS: Y; PinCount: 8; Code_JEDEC: MO-187-AA; ComponentLink1Description: LM5085 Datasheet; ComponentLink1URL: http://www.national.com/ds/LM/LM5085.pdf; ComponentLink2Description: LM5085 Web Page; ComponentLink2URL: http://www.national.com/pf/LM/LM5085.html; ComponentLink3Description: MUA08A Package Page; ComponentLink3URL: http://www.national.com/packaging/folders/mua08a.html
footprint MUA08A_N (TSOP, 8-Leads, Body 3x3mm, Pitch 0.65mm, IPC Medium Density)
footprint MUA08A_L (TSOP, 8-Leads, Body 3x3mm, Pitch 0.65mm, IPC High Density)
footprint MUA08A_M (TSOP, 8-Leads, Body 3x3mm, Pitch 0.65mm, IPC Low Density)
pins: 1 ADJ, 2 RT, 3 FB, 4 GND (power), 5 ISEN, 6 PGATE, 7 VCC (power), 8 VIN

## LM5085MME/NOPB
designator U?
75V Constant On-Time PFET Buck Switching Controller, 8-pin MSOP, Pb-Free; PartNumber: LM5085MME/NOPB; Manufacturer: National Semiconductor; PackageTopMarking: ZXTT*SSTB; PowerWise: Y; CompType: Switcher; Published: 1-Mar-2010; DatasheetVersion: Dec-2009; PackageVersion: revF, Apr-2008; PackageReference: MUA08A; Publisher: Altium Limited; PackageDescription: MINI SOIC, .118 x .118 x .034in, 8 Lead, .0256in Pitch; Supplier 1: Digi-Key; Supplier Part Number 1: LM5085MMETR-ND; Supplier 2: Digi-Key; Supplier Part Number 2: LM5085MMECT-ND; Supplier 3: Digi-Key; Supplier Part Number 3: LM5085MMEDKR-ND; Supplier 4: Farnell; Supplier Part Number 4: 1691407; RoHS: Y; PinCount: 8; Code_JEDEC: MO-187-AA; ComponentLink1Description: LM5085 Datasheet; ComponentLink1URL: http://www.national.com/ds/LM/LM5085.pdf; ComponentLink2Description: LM5085 Web Page; ComponentLink2URL: http://www.national.com/pf/LM/LM5085.html; ComponentLink3Description: MUA08A Package Page; ComponentLink3URL: http://www.national.com/packaging/folders/mua08a.html
footprint MUA08A_N (TSOP, 8-Leads, Body 3x3mm, Pitch 0.65mm, IPC Medium Density)
footprint MUA08A_L (TSOP, 8-Leads, Body 3x3mm, Pitch 0.65mm, IPC High Density)
footprint MUA08A_M (TSOP, 8-Leads, Body 3x3mm, Pitch 0.65mm, IPC Low Density)
pins: 1 ADJ, 2 RT, 3 FB, 4 GND (power), 5 ISEN, 6 PGATE, 7 VCC (power), 8 VIN

## LM5085MMX/NOPB
designator U?
75V Constant On-Time PFET Buck Switching Controller, 8-pin MSOP, Pb-Free; PartNumber: LM5085MMX/NOPB; Manufacturer: National Semiconductor; PackageTopMarking: ZXTT*SSTB; PowerWise: Y; CompType: Switcher; Published: 1-Mar-2010; DatasheetVersion: Dec-2009; PackageVersion: revF, Apr-2008; PackageReference: MUA08A; Publisher: Altium Limited; PackageDescription: MINI SOIC, .118 x .118 x .034in, 8 Lead, .0256in Pitch; Supplier 1: Digi-Key; Supplier Part Number 1: LM5085MMX-ND; RoHS: Y; PinCount: 8; Code_JEDEC: MO-187-AA; ComponentLink1Description: LM5085 Datasheet; ComponentLink1URL: http://www.national.com/ds/LM/LM5085.pdf; ComponentLink2Description: LM5085 Web Page; ComponentLink2URL: http://www.national.com/pf/LM/LM5085.html; ComponentLink3Description: MUA08A Package Page; ComponentLink3URL: http://www.national.com/packaging/folders/mua08a.html
footprint MUA08A_N (TSOP, 8-Leads, Body 3x3mm, Pitch 0.65mm, IPC Medium Density)
footprint MUA08A_L (TSOP, 8-Leads, Body 3x3mm, Pitch 0.65mm, IPC High Density)
footprint MUA08A_M (TSOP, 8-Leads, Body 3x3mm, Pitch 0.65mm, IPC Low Density)
pins: 1 ADJ, 2 RT, 3 FB, 4 GND (power), 5 ISEN, 6 PGATE, 7 VCC (power), 8 VIN

## LM5085MY
designator U?
75V Constant On-Time PFET Buck Switching Controller, 8-pin eMSOP; PartNumber: LM5085MY; Manufacturer: National Semiconductor; PackageTopMarking: ZXTT*SSSB; PowerWise: Y; CompType: Switcher; Published: 29-May-2009; DatasheetVersion: Dec-2009; PackageVersion: revA, Nov-2003; PackageReference: MUY08A; Publisher: Altium Limited; PackageDescription: Molded Mini-SO, Exposed Pad, .118 x .118 x .034in Body, 8 Lead, .0256in Pitch; RoHS: Y; PinCount: 8; Code_JEDEC: MO-187-AA; ComponentLink1Description: LM5085 Datasheet; ComponentLink1URL: http://www.national.com/ds/LM/LM5085.pdf; ComponentLink2Description: LM5085 Web Page; ComponentLink2URL: http://www.national.com/pf/LM/LM5085.html; ComponentLink3Description: MUY08A Package Page; ComponentLink3URL: http://www.national.com/packaging/folders/muy08a.html
footprint MUY08A_N (TSOP, 8-Leads, Body 3x3mm, Pitch 0.65mm, Exposed Pad, IPC Medium Density)
footprint MUY08A_L (TSOP, 8-Leads, Body 3x3mm, Pitch 0.65mm, Exposed Pad, IPC High Density)
footprint MUY08A_M (TSOP, 8-Leads, Body 3x3mm, Pitch 0.65mm, Exposed Pad, IPC Low Density)
pins: 1 ADJ, 2 RT, 3 FB, 4 GND (power), 5 ISEN, 6 PGATE, 7 VCC (power), 8 VIN, 9 EP

## LM5085MY/NOPB
designator U?
75V Constant On-Time PFET Buck Switching Controller, 8-pin eMSOP, Pb-Free; PartNumber: LM5085MY/NOPB; Manufacturer: National Semiconductor; PackageTopMarking: ZXTT*SSSB; PowerWise: Y; CompType: Switcher; Published: 1-Mar-2010; DatasheetVersion: Dec-2009; PackageVersion: revA, Nov-2003; PackageReference: MUY08A; Publisher: Altium Limited; PackageDescription: Molded Mini-SO, Exposed Pad, .118 x .118 x .034in Body, 8 Lead, .0256in Pitch; Supplier 1: Digi-Key; Supplier Part Number 1: LM5085MY-ND; RoHS: Y; PinCount: 8; Code_JEDEC: MO-187-AA; ComponentLink1Description: LM5085 Datasheet; ComponentLink1URL: http://www.national.com/ds/LM/LM5085.pdf; ComponentLink2Description: LM5085 Web Page; ComponentLink2URL: http://www.national.com/pf/LM/LM5085.html; ComponentLink3Description: MUY08A Package Page; ComponentLink3URL: http://www.national.com/packaging/folders/muy08a.html
footprint MUY08A_N (TSOP, 8-Leads, Body 3x3mm, Pitch 0.65mm, Exposed Pad, IPC Medium Density)
footprint MUY08A_L (TSOP, 8-Leads, Body 3x3mm, Pitch 0.65mm, Exposed Pad, IPC High Density)
footprint MUY08A_M (TSOP, 8-Leads, Body 3x3mm, Pitch 0.65mm, Exposed Pad, IPC Low Density)
pins: 1 ADJ, 2 RT, 3 FB, 4 GND (power), 5 ISEN, 6 PGATE, 7 VCC (power), 8 VIN, 9 EP

## LM5085MYE/NOPB
designator U?
75V Constant On-Time PFET Buck Switching Controller, 8-pin eMSOP, Pb-Free; PartNumber: LM5085MYE/NOPB; Manufacturer: National Semiconductor; PackageTopMarking: ZXTT*SSSB; PowerWise: Y; CompType: Switcher; Published: 1-Mar-2010; DatasheetVersion: Dec-2009; PackageVersion: revA, Nov-2003; PackageReference: MUY08A; Publisher: Altium Limited; PackageDescription: Molded Mini-SO, Exposed Pad, .118 x .118 x .034in Body, 8 Lead, .0256in Pitch; Supplier 1: Digi-Key; Supplier Part Number 1: LM5085MYETR-ND; Supplier 2: Digi-Key; Supplier Part Number 2: LM5085MYECT-ND; Supplier 3: Digi-Key; Supplier Part Number 3: LM5085MYEDKR-ND; Supplier 4: Farnell; Supplier Part Number 4: 1691408; RoHS: Y; PinCount: 8; Code_JEDEC: MO-187-AA; ComponentLink1Description: LM5085 Datasheet; ComponentLink1URL: http://www.national.com/ds/LM/LM5085.pdf; ComponentLink2Description: LM5085 Web Page; ComponentLink2URL: http://www.national.com/pf/LM/LM5085.html; ComponentLink3Description: MUY08A Package Page; ComponentLink3URL: http://www.national.com/packaging/folders/muy08a.html
footprint MUY08A_N (TSOP, 8-Leads, Body 3x3mm, Pitch 0.65mm, Exposed Pad, IPC Medium Density)
footprint MUY08A_L (TSOP, 8-Leads, Body 3x3mm, Pitch 0.65mm, Exposed Pad, IPC High Density)
footprint MUY08A_M (TSOP, 8-Leads, Body 3x3mm, Pitch 0.65mm, Exposed Pad, IPC Low Density)
pins: 1 ADJ, 2 RT, 3 FB, 4 GND (power), 5 ISEN, 6 PGATE, 7 VCC (power), 8 VIN, 9 EP

## LM5085MYX/NOPB
designator U?
75V Constant On-Time PFET Buck Switching Controller, 8-pin eMSOP, Pb-Free; PartNumber: LM5085MYX/NOPB; Manufacturer: National Semiconductor; PackageTopMarking: ZXTT*SSSB; PowerWise: Y; CompType: Switcher; Published: 1-Mar-2010; DatasheetVersion: Dec-2009; PackageVersion: revA, Nov-2003; PackageReference: MUY08A; Publisher: Altium Limited; PackageDescription: Molded Mini-SO, Exposed Pad, .118 x .118 x .034in Body, 8 Lead, .0256in Pitch; Supplier 1: Digi-Key; Supplier Part Number 1: LM5085MYX-ND; RoHS: Y; PinCount: 8; Code_JEDEC: MO-187-AA; ComponentLink1Description: LM5085 Datasheet; ComponentLink1URL: http://www.national.com/ds/LM/LM5085.pdf; ComponentLink2Description: LM5085 Web Page; ComponentLink2URL: http://www.national.com/pf/LM/LM5085.html; ComponentLink3Description: MUY08A Package Page; ComponentLink3URL: http://www.national.com/packaging/folders/muy08a.html
footprint MUY08A_N (TSOP, 8-Leads, Body 3x3mm, Pitch 0.65mm, Exposed Pad, IPC Medium Density)
footprint MUY08A_L (TSOP, 8-Leads, Body 3x3mm, Pitch 0.65mm, Exposed Pad, IPC High Density)
footprint MUY08A_M (TSOP, 8-Leads, Body 3x3mm, Pitch 0.65mm, Exposed Pad, IPC Low Density)
pins: 1 ADJ, 2 RT, 3 FB, 4 GND (power), 5 ISEN, 6 PGATE, 7 VCC (power), 8 VIN, 9 EP

## LM5085QMY/NOPB
designator U?
75V Constant On-Time PFET Buck Switching Controller, 8-pin eMSOP, Pb-Free; PartNumber: LM5085QMY/NOPB; Manufacturer: National Semiconductor; PackageTopMarking: ZXTT*SYCB; PowerWise: Y; CompType: Switcher; Published: 1-Mar-2010; DatasheetVersion: Dec-2009; PackageVersion: revA, Nov-2003; PackageReference: MUY08A; Publisher: Altium Limited; PackageDescription: Molded Mini-SO, Exposed Pad, .118 x .118 x .034in Body, 8 Lead, .0256in Pitch; Supplier 1: Digi-Key; Supplier Part Number 1: LM5085QMY-ND; RoHS: Y; PinCount: 8; Code_JEDEC: MO-187-AA; ComponentLink1Description: LM5085 Datasheet; ComponentLink1URL: http://www.national.com/ds/LM/LM5085.pdf; ComponentLink2Description: LM5085 Web Page; ComponentLink2URL: http://www.national.com/pf/LM/LM5085.html; ComponentLink3Description: MUY08A Package Page; ComponentLink3URL: http://www.national.com/packaging/folders/muy08a.html
footprint MUY08A_N (TSOP, 8-Leads, Body 3x3mm, Pitch 0.65mm, Exposed Pad, IPC Medium Density)
footprint MUY08A_L (TSOP, 8-Leads, Body 3x3mm, Pitch 0.65mm, Exposed Pad, IPC High Density)
footprint MUY08A_M (TSOP, 8-Leads, Body 3x3mm, Pitch 0.65mm, Exposed Pad, IPC Low Density)
pins: 1 ADJ, 2 RT, 3 FB, 4 GND (power), 5 ISEN, 6 PGATE, 7 VCC (power), 8 VIN, 9 EP

## LM5085QMYE/NOPB
designator U?
75V Constant On-Time PFET Buck Switching Controller, 8-pin eMSOP, Pb-Free; PartNumber: LM5085QMYE/NOPB; Manufacturer: National Semiconductor; PackageTopMarking: ZXTT*SYCB; PowerWise: Y; CompType: Switcher; Published: 1-Mar-2010; DatasheetVersion: Dec-2009; PackageVersion: revA, Nov-2003; PackageReference: MUY08A; Publisher: Altium Limited; PackageDescription: Molded Mini-SO, Exposed Pad, .118 x .118 x .034in Body, 8 Lead, .0256in Pitch; Supplier 1: Digi-Key; Supplier Part Number 1: LM5085QMYETR-ND; Supplier 2: Digi-Key; Supplier Part Number 2: LM5085QMYECT-ND; Supplier 3: Digi-Key; Supplier Part Number 3: LM5085QMYEDKR-ND; Supplier 4: Farnell; Supplier Part Number 4: 1780287; RoHS: Y; PinCount: 8; Code_JEDEC: MO-187-AA; ComponentLink1Description: LM5085 Datasheet; ComponentLink1URL: http://www.national.com/ds/LM/LM5085.pdf; ComponentLink2Description: LM5085 Web Page; ComponentLink2URL: http://www.national.com/pf/LM/LM5085.html; ComponentLink3Description: MUY08A Package Page; ComponentLink3URL: http://www.national.com/packaging/folders/muy08a.html
footprint MUY08A_N (TSOP, 8-Leads, Body 3x3mm, Pitch 0.65mm, Exposed Pad, IPC Medium Density)
footprint MUY08A_L (TSOP, 8-Leads, Body 3x3mm, Pitch 0.65mm, Exposed Pad, IPC High Density)
footprint MUY08A_M (TSOP, 8-Leads, Body 3x3mm, Pitch 0.65mm, Exposed Pad, IPC Low Density)
pins: 1 ADJ, 2 RT, 3 FB, 4 GND (power), 5 ISEN, 6 PGATE, 7 VCC (power), 8 VIN, 9 EP

## LM5085QMYX/NOPB
designator U?
75V Constant On-Time PFET Buck Switching Controller, 8-pin eMSOP, Pb-Free; PartNumber: LM5085QMYX/NOPB; Manufacturer: National Semiconductor; PackageTopMarking: ZXTT*SYCB; PowerWise: Y; CompType: Switcher; Published: 1-Mar-2010; DatasheetVersion: Dec-2009; PackageVersion: revA, Nov-2003; PackageReference: MUY08A; Publisher: Altium Limited; PackageDescription: Molded Mini-SO, Exposed Pad, .118 x .118 x .034in Body, 8 Lead, .0256in Pitch; Supplier 1: Digi-Key; Supplier Part Number 1: LM5085QMYX-ND; RoHS: Y; PinCount: 8; Code_JEDEC: MO-187-AA; ComponentLink1Description: LM5085 Datasheet; ComponentLink1URL: http://www.national.com/ds/LM/LM5085.pdf; ComponentLink2Description: LM5085 Web Page; ComponentLink2URL: http://www.national.com/pf/LM/LM5085.html; ComponentLink3Description: MUY08A Package Page; ComponentLink3URL: http://www.national.com/packaging/folders/muy08a.html
footprint MUY08A_N (TSOP, 8-Leads, Body 3x3mm, Pitch 0.65mm, Exposed Pad, IPC Medium Density)
footprint MUY08A_L (TSOP, 8-Leads, Body 3x3mm, Pitch 0.65mm, Exposed Pad, IPC High Density)
footprint MUY08A_M (TSOP, 8-Leads, Body 3x3mm, Pitch 0.65mm, Exposed Pad, IPC Low Density)
pins: 1 ADJ, 2 RT, 3 FB, 4 GND (power), 5 ISEN, 6 PGATE, 7 VCC (power), 8 VIN, 9 EP

## LM5085SD
designator U?
75V Constant On-Time PFET Buck Switching Controller, 8-pin LLP; PartNumber: LM5085SD; Manufacturer: National Semiconductor; PackageTopMarking: ZXYTT*L245B; PowerWise: Y; CompType: Switcher; Published: 29-May-2009; DatasheetVersion: Dec-2009; PackageVersion: revA, Aug-2003; PackageReference: SDA08A; Publisher: Altium Limited; PackageDescription: LLP, Plastic, Dual, 3 x 3 x 0.8mm Body, 8 Lead, 0.5mm Pitch, No Pullback; RoHS: Y; PinCount: 8; ComponentLink1Description: LM5085 Datasheet; ComponentLink1URL: http://www.national.com/ds/LM/LM5085.pdf; ComponentLink2Description: LM5085 Web Page; ComponentLink2URL: http://www.national.com/pf/LM/LM5085.html; ComponentLink3Description: SDA08A Package Page; ComponentLink3URL: http://www.national.com/packaging/folders/sda08a.html
footprint SDA08A (SON, 8-Leads, Body 3x3mm, Pitch 0.5mm, NSC Recommended)
pins: 1 ADJ, 2 RT, 3 FB, 4 GND (power), 5 ISEN, 6 PGATE, 7 VCC (power), 8 VIN

## LM5085SD/NOPB
designator U?
75V Constant On-Time PFET Buck Switching Controller, 8-pin LLP, Pb-Free; PartNumber: LM5085SD/NOPB; Manufacturer: National Semiconductor; PackageTopMarking: ZXYTT*L245B; PowerWise: Y; CompType: Switcher; Published: 1-Mar-2010; DatasheetVersion: Dec-2009; PackageVersion: revA, Aug-2003; PackageReference: SDA08A; Publisher: Altium Limited; PackageDescription: LLP, Plastic, Dual, 3 x 3 x 0.8mm Body, 8 Lead, 0.5mm Pitch, No Pullback; Supplier 1: Digi-Key; Supplier Part Number 1: LM5085SD-ND; RoHS: Y; PinCount: 8; ComponentLink1Description: LM5085 Datasheet; ComponentLink1URL: http://www.national.com/ds/LM/LM5085.pdf; ComponentLink2Description: LM5085 Web Page; ComponentLink2URL: http://www.national.com/pf/LM/LM5085.html; ComponentLink3Description: SDA08A Package Page; ComponentLink3URL: http://www.national.com/packaging/folders/sda08a.html
footprint SDA08A (SON, 8-Leads, Body 3x3mm, Pitch 0.5mm, NSC Recommended)
pins: 1 ADJ, 2 RT, 3 FB, 4 GND (power), 5 ISEN, 6 PGATE, 7 VCC (power), 8 VIN

## LM5085SDE/NOPB
designator U?
75V Constant On-Time PFET Buck Switching Controller, 8-pin LLP, Pb-Free; PartNumber: LM5085SDE/NOPB; Manufacturer: National Semiconductor; PackageTopMarking: ZXYTT*L245B; PowerWise: Y; CompType: Switcher; Published: 1-Mar-2010; DatasheetVersion: Dec-2009; PackageVersion: revA, Aug-2003; PackageReference: SDA08A; Publisher: Altium Limited; PackageDescription: LLP, Plastic, Dual, 3 x 3 x 0.8mm Body, 8 Lead, 0.5mm Pitch, No Pullback; Supplier 1: Digi-Key; Supplier Part Number 1: LM5085SDETR-ND; Supplier 2: Digi-Key; Supplier Part Number 2: LM5085SDECT-ND; Supplier 3: Digi-Key; Supplier Part Number 3: LM5085SDEDKR-ND; RoHS: Y; PinCount: 8; ComponentLink1Description: LM5085 Datasheet; ComponentLink1URL: http://www.national.com/ds/LM/LM5085.pdf; ComponentLink2Description: LM5085 Web Page; ComponentLink2URL: http://www.national.com/pf/LM/LM5085.html; ComponentLink3Description: SDA08A Package Page; ComponentLink3URL: http://www.national.com/packaging/folders/sda08a.html
footprint SDA08A (SON, 8-Leads, Body 3x3mm, Pitch 0.5mm, NSC Recommended)
pins: 1 ADJ, 2 RT, 3 FB, 4 GND (power), 5 ISEN, 6 PGATE, 7 VCC (power), 8 VIN

## LM5085SDX/NOPB
designator U?
75V Constant On-Time PFET Buck Switching Controller, 8-pin LLP, Pb-Free; PartNumber: LM5085SDX/NOPB; Manufacturer: National Semiconductor; PackageTopMarking: ZXYTT*L245B; PowerWise: Y; CompType: Switcher; Published: 1-Mar-2010; DatasheetVersion: Dec-2009; PackageVersion: revA, Aug-2003; PackageReference: SDA08A; Publisher: Altium Limited; PackageDescription: LLP, Plastic, Dual, 3 x 3 x 0.8mm Body, 8 Lead, 0.5mm Pitch, No Pullback; Supplier 1: Digi-Key; Supplier Part Number 1: LM5085SDX-ND; RoHS: Y; PinCount: 8; ComponentLink1Description: LM5085 Datasheet; ComponentLink1URL: http://www.national.com/ds/LM/LM5085.pdf; ComponentLink2Description: LM5085 Web Page; ComponentLink2URL: http://www.national.com/pf/LM/LM5085.html; ComponentLink3Description: SDA08A Package Page; ComponentLink3URL: http://www.national.com/packaging/folders/sda08a.html
footprint SDA08A (SON, 8-Leads, Body 3x3mm, Pitch 0.5mm, NSC Recommended)
pins: 1 ADJ, 2 RT, 3 FB, 4 GND (power), 5 ISEN, 6 PGATE, 7 VCC (power), 8 VIN

## LM5088MH-1
designator U?
Wide Input Range Non-Synchronous Buck Controller, 16-pin TSSOP-EP; PartNumber: LM5088MH-1; Manufacturer: National Semiconductor; PackageTopMarking: NSUZXYTT*LM5088*MH-1; PowerWise: Y; CompType: Switcher; Published: 29-May-2009; DatasheetVersion: Jun-2009; PackageVersion: revA, Apr-2003; PackageReference: MXA16A; Publisher: Altium Limited; PackageDescription: Molded TSSOP, Jedec, Exposed Pad, 5.0 x 4.4 x 0.9mm Body,16 Lead, 0.65mm Pitch; RoHS: Y; PinCount: 16; Code_JEDEC: MO-153-ABT; ComponentLink1Description: LM5088 Datasheet; ComponentLink1URL: http://www.national.com/ds/LM/LM5088.pdf; ComponentLink2Description: LM5088 Web Page; ComponentLink2URL: http://www.national.com/pf/LM/LM5088.html; ComponentLink3Description: MXA16A Package Page; ComponentLink3URL: http://www.national.com/packaging/folders/mxa16a.html
footprint MXA16A_N (TSOP, 16-Leads, Body 5x4.4mm, Pitch 0.65mm, Exposed Pad, IPC Medium Density)
footprint MXA16A_L (TSOP, 16-Leads, Body 5x4.4mm, Pitch 0.65mm, Exposed Pad, IPC High Density)
footprint MXA16A_M (TSOP, 16-Leads, Body 5x4.4mm, Pitch 0.65mm, Exposed Pad, IPC Low Density)
pins: 1 VIN, 2 EN (in), 3 SS, 4 RAMP, 5 RT/SYNC, 6 GND (power), 7 COMP (power), 8 FB (power), 9 OUT, 10 DITH, 11 CSG (power), 12 CS, 13 SW (power), 14 HG (power), 15 BOOT, 16 VCC (power), 17 EP

## LM5088MH-1/NOPB
designator U?
Wide Input Range Non-Synchronous Buck Controller, 16-pin TSSOP-EP, Pb-Free; PartNumber: LM5088MH-1/NOPB; Manufacturer: National Semiconductor; PackageTopMarking: NSUZXYTT*LM5088*MH-1; PowerWise: Y; CompType: Switcher; Published: 1-Mar-2010; DatasheetVersion: Jun-2009; PackageVersion: revA, Apr-2003; PackageReference: MXA16A; Publisher: Altium Limited; PackageDescription: Molded TSSOP, Jedec, Exposed Pad, 5.0 x 4.4 x 0.9mm Body,16 Lead, 0.65mm Pitch; Supplier 1: Digi-Key; Supplier Part Number 1: LM5088MH-1-ND; Supplier 2: Farnell; Supplier Part Number 2: 1696599; RoHS: Y; PinCount: 16; Code_JEDEC: MO-153-ABT; ComponentLink1Description: LM5088 Datasheet; ComponentLink1URL: http://www.national.com/ds/LM/LM5088.pdf; ComponentLink2Description: LM5088 Web Page; ComponentLink2URL: http://www.national.com/pf/LM/LM5088.html; ComponentLink3Description: MXA16A Package Page; ComponentLink3URL: http://www.national.com/packaging/folders/mxa16a.html
footprint MXA16A_N (TSOP, 16-Leads, Body 5x4.4mm, Pitch 0.65mm, Exposed Pad, IPC Medium Density)
footprint MXA16A_L (TSOP, 16-Leads, Body 5x4.4mm, Pitch 0.65mm, Exposed Pad, IPC High Density)
footprint MXA16A_M (TSOP, 16-Leads, Body 5x4.4mm, Pitch 0.65mm, Exposed Pad, IPC Low Density)
pins: 1 VIN, 2 EN (in), 3 SS, 4 RAMP, 5 RT/SYNC, 6 GND (power), 7 COMP (power), 8 FB (power), 9 OUT, 10 DITH, 11 CSG (power), 12 CS, 13 SW (power), 14 HG (power), 15 BOOT, 16 VCC (power), 17 EP